# EAGLE library part PHB_1MM27_2X07_* (library ce-capstone)
Pin Header Box-Type, 1.27mm/0.5"/50mil Pitch, 2x07 Circuits Note: see library description for an important note about THT-version
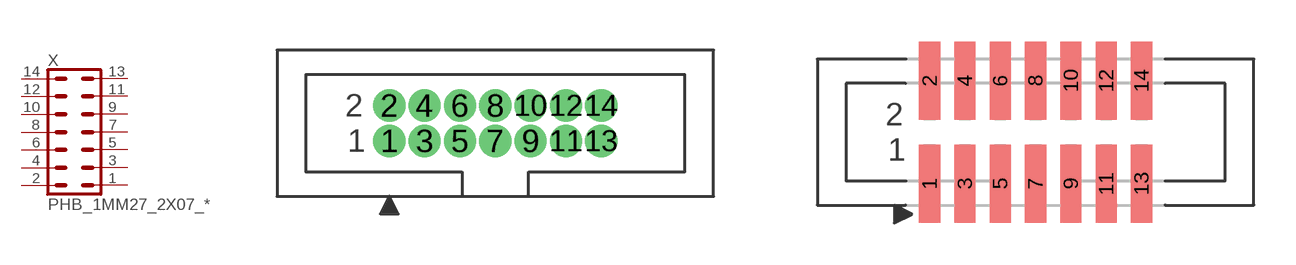
[diagram p2: symbol with the pads of PHB_1MM27_2X07_SNT; footprints PHB_1MM27_2X07_SNT, PHB_1MM27_2X07_SNS]

Designator prefix X

## PHB_1MM27_2X07_SNT  [PHB_1MM27_2X07_SNT]
1  1  pas
2  2  pas
3  3  pas
4  4  pas
5  5  pas
6  6  pas
7  7  pas
8  8  pas
9  9  pas
10  10  pas
11  11  pas
12  12  pas
13  13  pas
14  14  pas

## PHB_1MM27_2X07_SNS  [PHB_1MM27_2X07_SNS]
Pads as for PHB_1MM27_2X07_SNT

## Footprint PHB_1MM27_2X07_SNT (pad centres in mm)
Pin Header Box-Type, 1.27mm Pitch, 2x07 circuits, Straight, No Locking, THT Important Note regarding to THT-versions: see description of library
drill 0.65: 1 -3.81,-0.635; 2 -3.81,0.635; 3 -2.54,-0.635; 4 -2.54,0.635; 5 -1.27,-0.635; 6 -1.27,0.635; 7 0,-0.635; 8 0,0.635; 9 1.27,-0.635; 10 1.27,0.635; 11 2.54,-0.635; 12 2.54,0.635; 13 3.81,-0.635; 14 3.81,0.635

## Footprint PHB_1MM27_2X07_SNS (pad centres in mm)
Pin Header Box-Type, 1.27mm Pitch, 2x07 circuits, Straight, No Locking, SMT
smd 0.76 x 2.8: 1 -3.81,-1.85; 2 -3.81,1.85; 3 -2.54,-1.85; 4 -2.54,1.85; 5 -1.27,-1.85; 6 -1.27,1.85; 7 0,-1.85; 8 0,1.85; 9 1.27,-1.85; 10 1.27,1.85; 11 2.54,-1.85; 12 2.54,1.85; 13 3.81,-1.85; 14 3.81,1.85